# EAGLE library part 057-010- (library con-panduit)
CONNECTOR 10-pin series 057 contact pc board low profile headers
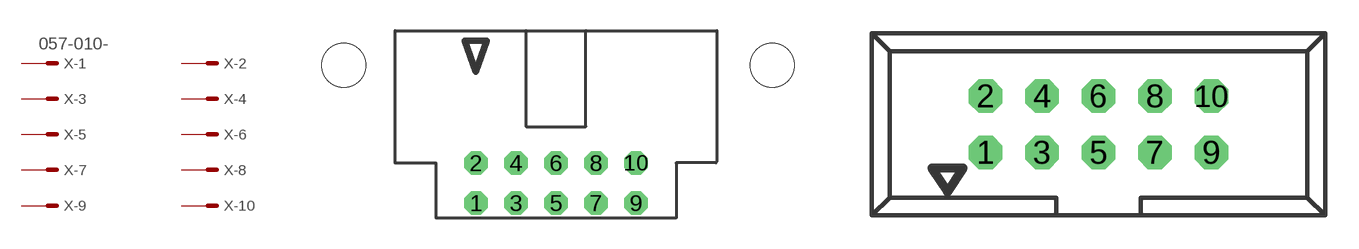
[diagram p9: symbol with the pads of 057-010-0; footprints 057-010-0, 057-010-1]

Designator prefix X; gates -1=MV -2=M -3=M -4=M -5=M -6=M -7=M -8=M -9=M -10=M

## 057-010-0 (OC_FARNELL: unknown; OC_NEWARK: unknown)  [057-010-0]
1  -1:S  pas
2  -2:S  pas
3  -3:S  pas
4  -4:S  pas
5  -5:S  pas
6  -6:S  pas
7  -7:S  pas
8  -8:S  pas
9  -9:S  pas
10  -10:S  pas

## 057-010-1 (OC_FARNELL: unknown; OC_NEWARK: unknown)  [057-010-1]
Pads as for 057-010-0

## Footprint 057-010-0 (pad centres in mm)
CONNECTOR series 057 contact pc board low profile headers angled
drill 1 octagon: 1 -5.08,-5.08; 2 -5.08,-2.54; 3 -2.54,-5.08; 4 -2.54,-2.54; 5 0,-5.08; 6 0,-2.54; 7 2.54,-5.08; 8 2.54,-2.54; 9 5.08,-5.08; 10 5.08,-2.54
hole 2.8 at -13.48,3.66
hole 2.8 at 13.73,3.66

## Footprint 057-010-1 (pad centres in mm)
CONNECTOR series 057 contact pc board low profile headers straight
drill 1 octagon: 1 -5.08,-1.27; 2 -5.08,1.27; 3 -2.54,-1.27; 4 -2.54,1.27; 5 0,-1.27; 6 0,1.27; 7 2.54,-1.27; 8 2.54,1.27; 9 5.08,-1.27; 10 5.08,1.27